# Altium footprint library Flex_R_0805(2012).PcbLib: 1 footprints
Each footprint in its own frame and in the unit in brackets; x right, y up, seen from the top. Pads: shape width x height; smd on the part's side, far side on the other; paste and mask are expansions set on the pad; w line width, h text height; cw(c..) or ccw(c..) is an arc to the next point about the centre after c.
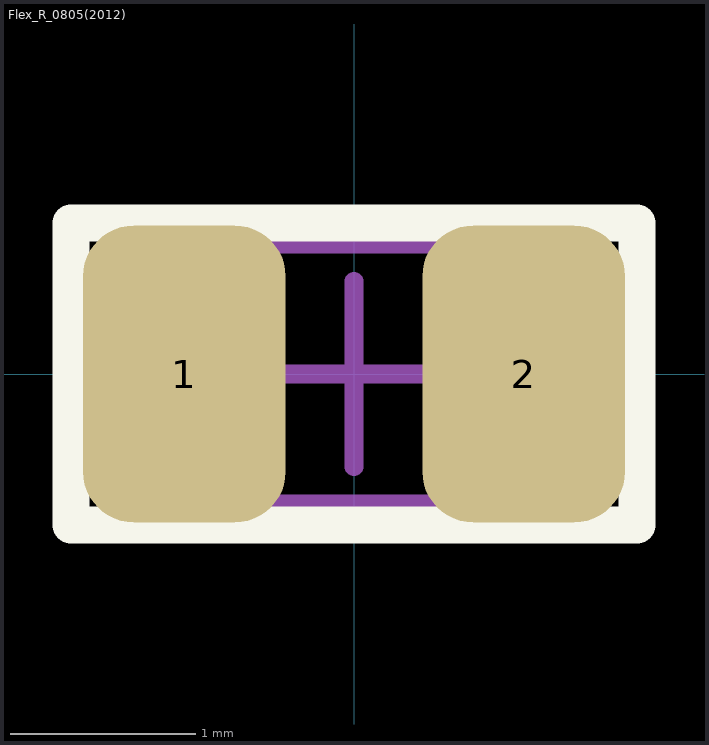
[diagram p0: the footprint, top view; thin cyan lines are the x and y axes]

## Flex_R_0805(2012) [mil] "Chip Resistor, Body 2.0x1.3mm, IPC Low Density"
height 25.59
pads (2):
  rrect50% 43x63 smd paste-7.87 mask-4.02: 1(-36,0) 2(36,0)
Top Overlay:
  lines w7.87: -60,-32 60,-32 60,32 -60,32 -60,-32
Mechanical 13:
  lines w3.94: -42.32,-27.56 -42.32,27.56 42.32,27.56 42.32,-27.56 -42.32,-27.56
Mechanical 15:
  lines w3.94: -19.69,0 19.68,0 ; 0,-19.68 0,19.69 ; -60,-31 -60,31 60,31 60,-31 -60,-31
3D body: height 25.59, standoff 0, extent -42.32,-27.56 42.32,27.56